# Altium schematic symbol library WE-TVSP.SchLib: 358 symbols (part 7 of 7)
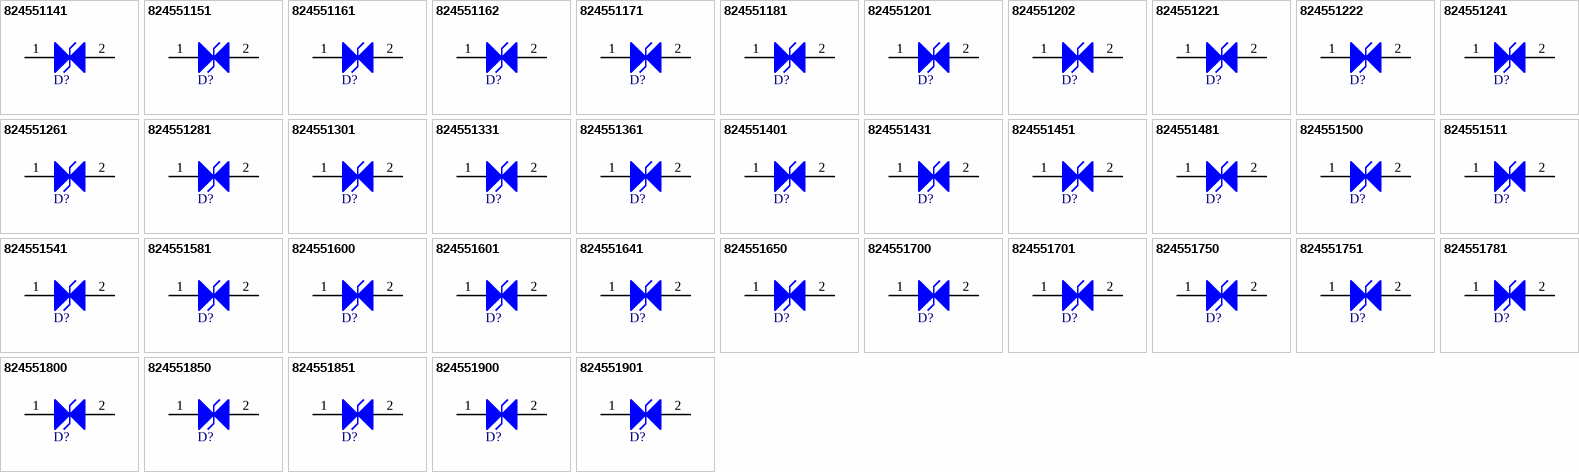
[diagram p14: symbols 824551141 to 824551901]

## 824551202
designator D?, comment 3000W, 200VDC  (value not drawn)
WE-TVSP SMT Power TVS Diode, DO-214AB, Bidirectional, 3000W, 200VDC; Manufacturer Part Number: 824551202; Manufacturer: Wurth Elektronik; Clamping Voltage: 324V; Operating Voltage (DC): 200V; (Reverse) Breakdown Voltage: 235.5V; (Reverse) Peak Pulse Current: 9.3A; ComponentLink1Description: Website Link; ComponentLink1URL: https://www.we-online.com/redexpert/article/824551202?ad; ComponentLink2Description: Datasheet Link; ComponentLink2URL: https://www.we-online.com/redexpert/spec/824551202?ad; Category: Surge Protection; Match Code: WE-TVSP; Mount: Surface Mount; Operating Temperature Max: 150°C; Operating Temperature Min: -65°C; Packaging: Tape and Reel; Case/Size Code: DO-214AB; Length: 6.86mm; Width: 5.9mm; Height: 2.5mm; Polarity: Bidirectional; Power Dissipation: 3000W
footprint WE-TVSP_DO-214AB_Bidirectional
pins: 1, 2

## 824551221
designator D?, comment 3000W, 22VDC  (value not drawn)
WE-TVSP SMT Power TVS Diode, DO-214AB, Bidirectional, 3000W, 22VDC; Manufacturer Part Number: 824551221; Manufacturer: Wurth Elektronik; Clamping Voltage: 35.5V; Operating Voltage (DC): 22V; (Reverse) Breakdown Voltage: 25.65V; (Reverse) Peak Pulse Current: 84.5A; ComponentLink1Description: Website Link; ComponentLink1URL: https://www.we-online.com/redexpert/article/824551221?ad; ComponentLink2Description: Datasheet Link; ComponentLink2URL: https://www.we-online.com/redexpert/spec/824551221?ad; Category: Surge Protection; Match Code: WE-TVSP; Mount: Surface Mount; Operating Temperature Max: 150°C; Operating Temperature Min: -65°C; Packaging: Tape and Reel; Case/Size Code: DO-214AB; Length: 6.86mm; Width: 5.9mm; Height: 2.5mm; Polarity: Bidirectional; Power Dissipation: 3000W
footprint WE-TVSP_DO-214AB_Bidirectional
pins: 1, 2

## 824551222
designator D?, comment 3000W, 220VDC  (value not drawn)
WE-TVSP SMT Power TVS Diode, DO-214AB, Bidirectional, 3000W, 220VDC; Manufacturer Part Number: 824551222; Manufacturer: Wurth Elektronik; Clamping Voltage: 356V; Operating Voltage (DC): 220V; (Reverse) Breakdown Voltage: 259V; (Reverse) Peak Pulse Current: 8.4A; ComponentLink1Description: Website Link; ComponentLink1URL: https://www.we-online.com/redexpert/article/824551222?ad; ComponentLink2Description: Datasheet Link; ComponentLink2URL: https://www.we-online.com/redexpert/spec/824551222?ad; Category: Surge Protection; Match Code: WE-TVSP; Mount: Surface Mount; Operating Temperature Max: 150°C; Operating Temperature Min: -65°C; Packaging: Tape and Reel; Case/Size Code: DO-214AB; Length: 6.86mm; Width: 5.9mm; Height: 2.5mm; Polarity: Bidirectional; Power Dissipation: 3000W
footprint WE-TVSP_DO-214AB_Bidirectional
pins: 1, 2

## 824551241
designator D?, comment 3000W, 24VDC  (value not drawn)
WE-TVSP SMT Power TVS Diode, DO-214AB, Bidirectional, 3000W, 24VDC; Manufacturer Part Number: 824551241; Manufacturer: Wurth Elektronik; Clamping Voltage: 38.9V; Operating Voltage (DC): 24V; (Reverse) Breakdown Voltage: 28.1V; (Reverse) Peak Pulse Current: 77.1A; ComponentLink1Description: Website Link; ComponentLink1URL: https://www.we-online.com/redexpert/article/824551241?ad; ComponentLink2Description: Datasheet Link; ComponentLink2URL: https://www.we-online.com/redexpert/spec/824551241?ad; Category: Surge Protection; Match Code: WE-TVSP; Mount: Surface Mount; Operating Temperature Max: 150°C; Operating Temperature Min: -65°C; Packaging: Tape and Reel; Case/Size Code: DO-214AB; Length: 6.86mm; Width: 5.9mm; Height: 2.5mm; Polarity: Bidirectional; Power Dissipation: 3000W
footprint WE-TVSP_DO-214AB_Bidirectional
pins: 1, 2

## 824551261
designator D?, comment 3000W, 26VDC  (value not drawn)
WE-TVSP SMT Power TVS Diode, DO-214AB, Bidirectional, 3000W, 26VDC; Manufacturer Part Number: 824551261; Manufacturer: Wurth Elektronik; Clamping Voltage: 42.1V; Operating Voltage (DC): 26V; (Reverse) Breakdown Voltage: 30.4V; (Reverse) Peak Pulse Current: 71.3A; ComponentLink1Description: Website Link; ComponentLink1URL: https://www.we-online.com/redexpert/article/824551261?ad; ComponentLink2Description: Datasheet Link; ComponentLink2URL: https://www.we-online.com/redexpert/spec/824551261?ad; Category: Surge Protection; Match Code: WE-TVSP; Mount: Surface Mount; Operating Temperature Max: 150°C; Operating Temperature Min: -65°C; Packaging: Tape and Reel; Case/Size Code: DO-214AB; Length: 6.86mm; Width: 5.9mm; Height: 2.5mm; Polarity: Bidirectional; Power Dissipation: 3000W
footprint WE-TVSP_DO-214AB_Bidirectional
pins: 1, 2

## 824551281
designator D?, comment 3000W, 28VDC  (value not drawn)
WE-TVSP SMT Power TVS Diode, DO-214AB, Bidirectional, 3000W, 28VDC; Manufacturer Part Number: 824551281; Manufacturer: Wurth Elektronik; Clamping Voltage: 45.4V; Operating Voltage (DC): 28V; (Reverse) Breakdown Voltage: 32.75V; (Reverse) Peak Pulse Current: 66.1A; ComponentLink1Description: Website Link; ComponentLink1URL: https://www.we-online.com/redexpert/article/824551281?ad; ComponentLink2Description: Datasheet Link; ComponentLink2URL: https://www.we-online.com/redexpert/spec/824551281?ad; Category: Surge Protection; Match Code: WE-TVSP; Mount: Surface Mount; Operating Temperature Max: 150°C; Operating Temperature Min: -65°C; Packaging: Tape and Reel; Case/Size Code: DO-214AB; Length: 6.86mm; Width: 5.9mm; Height: 2.5mm; Polarity: Bidirectional; Power Dissipation: 3000W
footprint WE-TVSP_DO-214AB_Bidirectional
pins: 1, 2

## 824551301
designator D?, comment 3000W, 30VDC  (value not drawn)
WE-TVSP SMT Power TVS Diode, DO-214AB, Bidirectional, 3000W, 30VDC; Manufacturer Part Number: 824551301; Manufacturer: Wurth Elektronik; Clamping Voltage: 48.4V; Operating Voltage (DC): 30V; (Reverse) Breakdown Voltage: 35.05V; (Reverse) Peak Pulse Current: 62A; ComponentLink1Description: Website Link; ComponentLink1URL: https://www.we-online.com/redexpert/article/824551301?ad; ComponentLink2Description: Datasheet Link; ComponentLink2URL: https://www.we-online.com/redexpert/spec/824551301?ad; Category: Surge Protection; Match Code: WE-TVSP; Mount: Surface Mount; Operating Temperature Max: 150°C; Operating Temperature Min: -65°C; Packaging: Tape and Reel; Case/Size Code: DO-214AB; Length: 6.86mm; Width: 5.9mm; Height: 2.5mm; Polarity: Bidirectional; Power Dissipation: 3000W
footprint WE-TVSP_DO-214AB_Bidirectional
pins: 1, 2

## 824551331
designator D?, comment 3000W, 33VDC  (value not drawn)
WE-TVSP SMT Power TVS Diode, DO-214AB, Bidirectional, 3000W, 33VDC; Manufacturer Part Number: 824551331; Manufacturer: Wurth Elektronik; Clamping Voltage: 53.3V; Operating Voltage (DC): 33V; (Reverse) Breakdown Voltage: 38.65V; (Reverse) Peak Pulse Current: 56.3A; ComponentLink1Description: Website Link; ComponentLink1URL: https://www.we-online.com/redexpert/article/824551331?ad; ComponentLink2Description: Datasheet Link; ComponentLink2URL: https://www.we-online.com/redexpert/spec/824551331?ad; Category: Surge Protection; Match Code: WE-TVSP; Mount: Surface Mount; Operating Temperature Max: 150°C; Operating Temperature Min: -65°C; Packaging: Tape and Reel; Case/Size Code: DO-214AB; Length: 6.86mm; Width: 5.9mm; Height: 2.5mm; Polarity: Bidirectional; Power Dissipation: 3000W
footprint WE-TVSP_DO-214AB_Bidirectional
pins: 1, 2

## 824551361
designator D?, comment 3000W, 36VDC  (value not drawn)
WE-TVSP SMT Power TVS Diode, DO-214AB, Bidirectional, 3000W, 36VDC; Manufacturer Part Number: 824551361; Manufacturer: Wurth Elektronik; Clamping Voltage: 58.1V; Operating Voltage (DC): 36V; (Reverse) Breakdown Voltage: 42.1V; (Reverse) Peak Pulse Current: 51.6A; ComponentLink1Description: Website Link; ComponentLink1URL: https://www.we-online.com/redexpert/article/824551361?ad; ComponentLink2Description: Datasheet Link; ComponentLink2URL: https://www.we-online.com/redexpert/spec/824551361?ad; Category: Surge Protection; Match Code: WE-TVSP; Mount: Surface Mount; Operating Temperature Max: 150°C; Operating Temperature Min: -65°C; Packaging: Tape and Reel; Case/Size Code: DO-214AB; Length: 6.86mm; Width: 5.9mm; Height: 2.5mm; Polarity: Bidirectional; Power Dissipation: 3000W
footprint WE-TVSP_DO-214AB_Bidirectional
pins: 1, 2

## 824551401
designator D?, comment 3000W, 40VDC  (value not drawn)
WE-TVSP SMT Power TVS Diode, DO-214AB, Bidirectional, 3000W, 40VDC; Manufacturer Part Number: 824551401; Manufacturer: Wurth Elektronik; Clamping Voltage: 64.5V; Operating Voltage (DC): 40V; (Reverse) Breakdown Voltage: 46.75V; (Reverse) Peak Pulse Current: 46.5A; ComponentLink1Description: Website Link; ComponentLink1URL: https://www.we-online.com/redexpert/article/824551401?ad; ComponentLink2Description: Datasheet Link; ComponentLink2URL: https://www.we-online.com/redexpert/spec/824551401?ad; Category: Surge Protection; Match Code: WE-TVSP; Mount: Surface Mount; Operating Temperature Max: 150°C; Operating Temperature Min: -65°C; Packaging: Tape and Reel; Case/Size Code: DO-214AB; Length: 6.86mm; Width: 5.9mm; Height: 2.5mm; Polarity: Bidirectional; Power Dissipation: 3000W
footprint WE-TVSP_DO-214AB_Bidirectional
pins: 1, 2

## 824551431
designator D?, comment 3000W, 43VDC  (value not drawn)
WE-TVSP SMT Power TVS Diode, DO-214AB, Bidirectional, 3000W, 43VDC; Manufacturer Part Number: 824551431; Manufacturer: Wurth Elektronik; Clamping Voltage: 69.4V; Operating Voltage (DC): 43V; (Reverse) Breakdown Voltage: 50.3V; (Reverse) Peak Pulse Current: 43.2A; ComponentLink1Description: Website Link; ComponentLink1URL: https://www.we-online.com/redexpert/article/824551431?ad; ComponentLink2Description: Datasheet Link; ComponentLink2URL: https://www.we-online.com/redexpert/spec/824551431?ad; Category: Surge Protection; Match Code: WE-TVSP; Mount: Surface Mount; Operating Temperature Max: 150°C; Operating Temperature Min: -65°C; Packaging: Tape and Reel; Case/Size Code: DO-214AB; Length: 6.86mm; Width: 5.9mm; Height: 2.5mm; Polarity: Bidirectional; Power Dissipation: 3000W
footprint WE-TVSP_DO-214AB_Bidirectional
pins: 1, 2

## 824551451
designator D?, comment 3000W, 45VDC  (value not drawn)
WE-TVSP SMT Power TVS Diode, DO-214AB, Bidirectional, 3000W, 45VDC; Manufacturer Part Number: 824551451; Manufacturer: Wurth Elektronik; Clamping Voltage: 72.7V; Operating Voltage (DC): 45V; (Reverse) Breakdown Voltage: 52.65V; (Reverse) Peak Pulse Current: 41.3A; ComponentLink1Description: Website Link; ComponentLink1URL: https://www.we-online.com/redexpert/article/824551451?ad; ComponentLink2Description: Datasheet Link; ComponentLink2URL: https://www.we-online.com/redexpert/spec/824551451?ad; Category: Surge Protection; Match Code: WE-TVSP; Mount: Surface Mount; Operating Temperature Max: 150°C; Operating Temperature Min: -65°C; Packaging: Tape and Reel; Case/Size Code: DO-214AB; Length: 6.86mm; Width: 5.9mm; Height: 2.5mm; Polarity: Bidirectional; Power Dissipation: 3000W
footprint WE-TVSP_DO-214AB_Bidirectional
pins: 1, 2

## 824551481
designator D?, comment 3000W, 48VDC  (value not drawn)
WE-TVSP SMT Power TVS Diode, DO-214AB, Bidirectional, 3000W, 48VDC; Manufacturer Part Number: 824551481; Manufacturer: Wurth Elektronik; Clamping Voltage: 77.4V; Operating Voltage (DC): 48V; (Reverse) Breakdown Voltage: 56.1V; (Reverse) Peak Pulse Current: 38.8A; ComponentLink1Description: Website Link; ComponentLink1URL: https://www.we-online.com/redexpert/article/824551481?ad; ComponentLink2Description: Datasheet Link; ComponentLink2URL: https://www.we-online.com/redexpert/spec/824551481?ad; Category: Surge Protection; Match Code: WE-TVSP; Mount: Surface Mount; Operating Temperature Max: 150°C; Operating Temperature Min: -65°C; Packaging: Tape and Reel; Case/Size Code: DO-214AB; Length: 6.86mm; Width: 5.9mm; Height: 2.5mm; Polarity: Bidirectional; Power Dissipation: 3000W
footprint WE-TVSP_DO-214AB_Bidirectional
pins: 1, 2

## 824551500
designator D?, comment 3000W, 5VDC  (value not drawn)
WE-TVSP SMT Power TVS Diode, DO-214AB, Bidirectional, 3000W, 5VDC; Manufacturer Part Number: 824551500; Manufacturer: Wurth Elektronik; Clamping Voltage: 9.2V; Operating Voltage (DC): 5V; (Reverse) Breakdown Voltage: 6.7V; (Reverse) Peak Pulse Current: 326.1A; ComponentLink1Description: Website Link; ComponentLink1URL: https://www.we-online.com/redexpert/article/824551500?ad; ComponentLink2Description: Datasheet Link; ComponentLink2URL: https://www.we-online.com/redexpert/spec/824551500?ad; Category: Surge Protection; Match Code: WE-TVSP; Mount: Surface Mount; Operating Temperature Max: 150°C; Operating Temperature Min: -65°C; Packaging: Tape and Reel; Case/Size Code: DO-214AB; Length: 6.86mm; Width: 5.9mm; Height: 2.5mm; Polarity: Bidirectional; Power Dissipation: 3000W
footprint WE-TVSP_DO-214AB_Bidirectional
pins: 1, 2

## 824551511
designator D?, comment 3000W, 51VDC  (value not drawn)
WE-TVSP SMT Power TVS Diode, DO-214AB, Bidirectional, 3000W, 51VDC; Manufacturer Part Number: 824551511; Manufacturer: Wurth Elektronik; Clamping Voltage: 82.4V; Operating Voltage (DC): 51V; (Reverse) Breakdown Voltage: 59.7V; (Reverse) Peak Pulse Current: 36.4A; ComponentLink1Description: Website Link; ComponentLink1URL: https://www.we-online.com/redexpert/article/824551511?ad; ComponentLink2Description: Datasheet Link; ComponentLink2URL: https://www.we-online.com/redexpert/spec/824551511?ad; Category: Surge Protection; Match Code: WE-TVSP; Mount: Surface Mount; Operating Temperature Max: 150°C; Operating Temperature Min: -65°C; Packaging: Tape and Reel; Case/Size Code: DO-214AB; Length: 6.86mm; Width: 5.9mm; Height: 2.5mm; Polarity: Bidirectional; Power Dissipation: 3000W
footprint WE-TVSP_DO-214AB_Bidirectional
pins: 1, 2

## 824551541
designator D?, comment 3000W, 54VDC  (value not drawn)
WE-TVSP SMT Power TVS Diode, DO-214AB, Bidirectional, 3000W, 54VDC; Manufacturer Part Number: 824551541; Manufacturer: Wurth Elektronik; Clamping Voltage: 87.1V; Operating Voltage (DC): 54V; (Reverse) Breakdown Voltage: 63.15V; (Reverse) Peak Pulse Current: 34.4A; ComponentLink1Description: Website Link; ComponentLink1URL: https://www.we-online.com/redexpert/article/824551541?ad; ComponentLink2Description: Datasheet Link; ComponentLink2URL: https://www.we-online.com/redexpert/spec/824551541?ad; Category: Surge Protection; Match Code: WE-TVSP; Mount: Surface Mount; Operating Temperature Max: 150°C; Operating Temperature Min: -65°C; Packaging: Tape and Reel; Case/Size Code: DO-214AB; Length: 6.86mm; Width: 5.9mm; Height: 2.5mm; Polarity: Bidirectional; Power Dissipation: 3000W
footprint WE-TVSP_DO-214AB_Bidirectional
pins: 1, 2

## 824551581
designator D?, comment 3000W, 58VDC  (value not drawn)
WE-TVSP SMT Power TVS Diode, DO-214AB, Bidirectional, 3000W, 58VDC; Manufacturer Part Number: 824551581; Manufacturer: Wurth Elektronik; Clamping Voltage: 93.6V; Operating Voltage (DC): 58V; (Reverse) Breakdown Voltage: 67.8V; (Reverse) Peak Pulse Current: 32.1A; ComponentLink1Description: Website Link; ComponentLink1URL: https://www.we-online.com/redexpert/article/824551581?ad; ComponentLink2Description: Datasheet Link; ComponentLink2URL: https://www.we-online.com/redexpert/spec/824551581?ad; Category: Surge Protection; Match Code: WE-TVSP; Mount: Surface Mount; Operating Temperature Max: 150°C; Operating Temperature Min: -65°C; Packaging: Tape and Reel; Case/Size Code: DO-214AB; Length: 6.86mm; Width: 5.9mm; Height: 2.5mm; Polarity: Bidirectional; Power Dissipation: 3000W
footprint WE-TVSP_DO-214AB_Bidirectional
pins: 1, 2

## 824551600
designator D?, comment 3000W, 6VDC  (value not drawn)
WE-TVSP SMT Power TVS Diode, DO-214AB, Bidirectional, 3000W, 6VDC; Manufacturer Part Number: 824551600; Manufacturer: Wurth Elektronik; Clamping Voltage: 10.3V; Operating Voltage (DC): 6V; (Reverse) Breakdown Voltage: 7.02V; (Reverse) Peak Pulse Current: 291.3A; ComponentLink1Description: Website Link; ComponentLink1URL: https://www.we-online.com/redexpert/article/824551600?ad; ComponentLink2Description: Datasheet Link; ComponentLink2URL: https://www.we-online.com/redexpert/spec/824551600?ad; Category: Surge Protection; Match Code: WE-TVSP; Mount: Surface Mount; Operating Temperature Max: 150°C; Operating Temperature Min: -65°C; Packaging: Tape and Reel; Case/Size Code: DO-214AB; Length: 6.86mm; Width: 5.9mm; Height: 2.5mm; Polarity: Bidirectional; Power Dissipation: 3000W
footprint WE-TVSP_DO-214AB_Bidirectional
pins: 1, 2

## 824551601
designator D?, comment 3000W, 60VDC  (value not drawn)
WE-TVSP SMT Power TVS Diode, DO-214AB, Bidirectional, 3000W, 60VDC; Manufacturer Part Number: 824551601; Manufacturer: Wurth Elektronik; Clamping Voltage: 96.8V; Operating Voltage (DC): 60V; (Reverse) Breakdown Voltage: 70.2V; (Reverse) Peak Pulse Current: 31A; ComponentLink1Description: Website Link; ComponentLink1URL: https://www.we-online.com/redexpert/article/824551601?ad; ComponentLink2Description: Datasheet Link; ComponentLink2URL: https://www.we-online.com/redexpert/spec/824551601?ad; Category: Surge Protection; Match Code: WE-TVSP; Mount: Surface Mount; Operating Temperature Max: 150°C; Operating Temperature Min: -65°C; Packaging: Tape and Reel; Case/Size Code: DO-214AB; Length: 6.86mm; Width: 5.9mm; Height: 2.5mm; Polarity: Bidirectional; Power Dissipation: 3000W
footprint WE-TVSP_DO-214AB_Bidirectional
pins: 1, 2

## 824551641
designator D?, comment 3000W, 64VDC  (value not drawn)
WE-TVSP SMT Power TVS Diode, DO-214AB, Bidirectional, 3000W, 64VDC; Manufacturer Part Number: 824551641; Manufacturer: Wurth Elektronik; Clamping Voltage: 103V; Operating Voltage (DC): 64V; (Reverse) Breakdown Voltage: 74.85V; (Reverse) Peak Pulse Current: 29.1A; ComponentLink1Description: Website Link; ComponentLink1URL: https://www.we-online.com/redexpert/article/824551641?ad; ComponentLink2Description: Datasheet Link; ComponentLink2URL: https://www.we-online.com/redexpert/spec/824551641?ad; Category: Surge Protection; Match Code: WE-TVSP; Mount: Surface Mount; Operating Temperature Max: 150°C; Operating Temperature Min: -65°C; Packaging: Tape and Reel; Case/Size Code: DO-214AB; Length: 6.86mm; Width: 5.9mm; Height: 2.5mm; Polarity: Bidirectional; Power Dissipation: 3000W
footprint WE-TVSP_DO-214AB_Bidirectional
pins: 1, 2

## 824551650
designator D?, comment 3000W, 6.5VDC  (value not drawn)
WE-TVSP SMT Power TVS Diode, DO-214AB, Bidirectional, 3000W, 6.5VDC; Manufacturer Part Number: 824551650; Manufacturer: Wurth Elektronik; Clamping Voltage: 11.2V; Operating Voltage (DC): 6.5V; (Reverse) Breakdown Voltage: 7.6V; (Reverse) Peak Pulse Current: 267.9A; ComponentLink1Description: Website Link; ComponentLink1URL: https://www.we-online.com/redexpert/article/824551650?ad; ComponentLink2Description: Datasheet Link; ComponentLink2URL: https://www.we-online.com/redexpert/spec/824551650?ad; Category: Surge Protection; Match Code: WE-TVSP; Mount: Surface Mount; Operating Temperature Max: 150°C; Operating Temperature Min: -65°C; Packaging: Tape and Reel; Case/Size Code: DO-214AB; Length: 6.86mm; Width: 5.9mm; Height: 2.5mm; Polarity: Bidirectional; Power Dissipation: 3000W
footprint WE-TVSP_DO-214AB_Bidirectional
pins: 1, 2

## 824551700
designator D?, comment 3000W, 7VDC  (value not drawn)
WE-TVSP SMT Power TVS Diode, DO-214AB, Bidirectional, 3000W, 7VDC; Manufacturer Part Number: 824551700; Manufacturer: Wurth Elektronik; Clamping Voltage: 12V; Operating Voltage (DC): 7V; (Reverse) Breakdown Voltage: 8.19V; (Reverse) Peak Pulse Current: 250A; ComponentLink1Description: Website Link; ComponentLink1URL: https://www.we-online.com/redexpert/article/824551700?ad; ComponentLink2Description: Datasheet Link; ComponentLink2URL: https://www.we-online.com/redexpert/spec/824551700?ad; Category: Surge Protection; Match Code: WE-TVSP; Mount: Surface Mount; Operating Temperature Max: 150°C; Operating Temperature Min: -65°C; Packaging: Tape and Reel; Case/Size Code: DO-214AB; Length: 6.86mm; Width: 5.9mm; Height: 2.5mm; Polarity: Bidirectional; Power Dissipation: 3000W
footprint WE-TVSP_DO-214AB_Bidirectional
pins: 1, 2

## 824551701
designator D?, comment 3000W, 70VDC  (value not drawn)
WE-TVSP SMT Power TVS Diode, DO-214AB, Bidirectional, 3000W, 70VDC; Manufacturer Part Number: 824551701; Manufacturer: Wurth Elektronik; Clamping Voltage: 113V; Operating Voltage (DC): 70V; (Reverse) Breakdown Voltage: 81.9V; (Reverse) Peak Pulse Current: 26.5A; ComponentLink1Description: Website Link; ComponentLink1URL: https://www.we-online.com/redexpert/article/824551701?ad; ComponentLink2Description: Datasheet Link; ComponentLink2URL: https://www.we-online.com/redexpert/spec/824551701?ad; Category: Surge Protection; Match Code: WE-TVSP; Mount: Surface Mount; Operating Temperature Max: 150°C; Operating Temperature Min: -65°C; Packaging: Tape and Reel; Case/Size Code: DO-214AB; Length: 6.86mm; Width: 5.9mm; Height: 2.5mm; Polarity: Bidirectional; Power Dissipation: 3000W
footprint WE-TVSP_DO-214AB_Bidirectional
pins: 1, 2

## 824551750
designator D?, comment 3000W, 7.5VDC  (value not drawn)
WE-TVSP SMT Power TVS Diode, DO-214AB, Bidirectional, 3000W, 7.5VDC; Manufacturer Part Number: 824551750; Manufacturer: Wurth Elektronik; Clamping Voltage: 12.9V; Operating Voltage (DC): 7.5V; (Reverse) Breakdown Voltage: 8.77V; (Reverse) Peak Pulse Current: 232.6A; ComponentLink1Description: Website Link; ComponentLink1URL: https://www.we-online.com/redexpert/article/824551750?ad; ComponentLink2Description: Datasheet Link; ComponentLink2URL: https://www.we-online.com/redexpert/spec/824551750?ad; Category: Surge Protection; Match Code: WE-TVSP; Mount: Surface Mount; Operating Temperature Max: 150°C; Operating Temperature Min: -65°C; Packaging: Tape and Reel; Case/Size Code: DO-214AB; Length: 6.86mm; Width: 5.9mm; Height: 2.5mm; Polarity: Bidirectional; Power Dissipation: 3000W
footprint WE-TVSP_DO-214AB_Bidirectional
pins: 1, 2

## 824551751
designator D?, comment 3000W, 75VDC  (value not drawn)
WE-TVSP SMT Power TVS Diode, DO-214AB, Bidirectional, 3000W, 75VDC; Manufacturer Part Number: 824551751; Manufacturer: Wurth Elektronik; Clamping Voltage: 121V; Operating Voltage (DC): 75V; (Reverse) Breakdown Voltage: 87.7V; (Reverse) Peak Pulse Current: 24.8A; ComponentLink1Description: Website Link; ComponentLink1URL: https://www.we-online.com/redexpert/article/824551751?ad; ComponentLink2Description: Datasheet Link; ComponentLink2URL: https://www.we-online.com/redexpert/spec/824551751?ad; Category: Surge Protection; Match Code: WE-TVSP; Mount: Surface Mount; Operating Temperature Max: 150°C; Operating Temperature Min: -65°C; Packaging: Tape and Reel; Case/Size Code: DO-214AB; Length: 6.86mm; Width: 5.9mm; Height: 2.5mm; Polarity: Bidirectional; Power Dissipation: 3000W
footprint WE-TVSP_DO-214AB_Bidirectional
pins: 1, 2

## 824551781
designator D?, comment 3000W, 78VDC  (value not drawn)
WE-TVSP SMT Power TVS Diode, DO-214AB, Bidirectional, 3000W, 78VDC; Manufacturer Part Number: 824551781; Manufacturer: Wurth Elektronik; Clamping Voltage: 126V; Operating Voltage (DC): 78V; (Reverse) Breakdown Voltage: 91.25V; (Reverse) Peak Pulse Current: 23.8A; ComponentLink1Description: Website Link; ComponentLink1URL: https://www.we-online.com/redexpert/article/824551781?ad; ComponentLink2Description: Datasheet Link; ComponentLink2URL: https://www.we-online.com/redexpert/spec/824551781?ad; Category: Surge Protection; Match Code: WE-TVSP; Mount: Surface Mount; Operating Temperature Max: 150°C; Operating Temperature Min: -65°C; Packaging: Tape and Reel; Case/Size Code: DO-214AB; Length: 6.86mm; Width: 5.9mm; Height: 2.5mm; Polarity: Bidirectional; Power Dissipation: 3000W
footprint WE-TVSP_DO-214AB_Bidirectional
pins: 1, 2

## 824551800
designator D?, comment 3000W, 8VDC  (value not drawn)
WE-TVSP SMT Power TVS Diode, DO-214AB, Bidirectional, 3000W, 8VDC; Manufacturer Part Number: 824551800; Manufacturer: Wurth Elektronik; Clamping Voltage: 13.6V; Operating Voltage (DC): 8V; (Reverse) Breakdown Voltage: 9.36V; (Reverse) Peak Pulse Current: 220.6A; ComponentLink1Description: Website Link; ComponentLink1URL: https://www.we-online.com/redexpert/article/824551800?ad; ComponentLink2Description: Datasheet Link; ComponentLink2URL: https://www.we-online.com/redexpert/spec/824551800?ad; Category: Surge Protection; Match Code: WE-TVSP; Mount: Surface Mount; Operating Temperature Max: 150°C; Operating Temperature Min: -65°C; Packaging: Tape and Reel; Case/Size Code: DO-214AB; Length: 6.86mm; Width: 5.9mm; Height: 2.5mm; Polarity: Bidirectional; Power Dissipation: 3000W
footprint WE-TVSP_DO-214AB_Bidirectional
pins: 1, 2

## 824551850
designator D?, comment 3000W, 8.5VDC  (value not drawn)
WE-TVSP SMT Power TVS Diode, DO-214AB, Bidirectional, 3000W, 8.5VDC; Manufacturer Part Number: 824551850; Manufacturer: Wurth Elektronik; Clamping Voltage: 14.4V; Operating Voltage (DC): 8.5V; (Reverse) Breakdown Voltage: 9.92V; (Reverse) Peak Pulse Current: 208.3A; ComponentLink1Description: Website Link; ComponentLink1URL: https://www.we-online.com/redexpert/article/824551850?ad; ComponentLink2Description: Datasheet Link; ComponentLink2URL: https://www.we-online.com/redexpert/spec/824551850?ad; Category: Surge Protection; Match Code: WE-TVSP; Mount: Surface Mount; Operating Temperature Max: 150°C; Operating Temperature Min: -65°C; Packaging: Tape and Reel; Case/Size Code: DO-214AB; Length: 6.86mm; Width: 5.9mm; Height: 2.5mm; Polarity: Bidirectional; Power Dissipation: 3000W
footprint WE-TVSP_DO-214AB_Bidirectional
pins: 1, 2

## 824551851
designator D?, comment 3000W, 85VDC  (value not drawn)
WE-TVSP SMT Power TVS Diode, DO-214AB, Bidirectional, 3000W, 85VDC; Manufacturer Part Number: 824551851; Manufacturer: Wurth Elektronik; Clamping Voltage: 137V; Operating Voltage (DC): 85V; (Reverse) Breakdown Voltage: 99.2V; (Reverse) Peak Pulse Current: 21.9A; ComponentLink1Description: Website Link; ComponentLink1URL: https://www.we-online.com/redexpert/article/824551851?ad; ComponentLink2Description: Datasheet Link; ComponentLink2URL: https://www.we-online.com/redexpert/spec/824551851?ad; Category: Surge Protection; Match Code: WE-TVSP; Mount: Surface Mount; Operating Temperature Max: 150°C; Operating Temperature Min: -65°C; Packaging: Tape and Reel; Case/Size Code: DO-214AB; Length: 6.86mm; Width: 5.9mm; Height: 2.5mm; Polarity: Bidirectional; Power Dissipation: 3000W
footprint WE-TVSP_DO-214AB_Bidirectional
pins: 1, 2

## 824551900
designator D?, comment 3000W, 9VDC  (value not drawn)
WE-TVSP SMT Power TVS Diode, DO-214AB, Bidirectional, 3000W, 9VDC; Manufacturer Part Number: 824551900; Manufacturer: Wurth Elektronik; Clamping Voltage: 15.4V; Operating Voltage (DC): 9V; (Reverse) Breakdown Voltage: 10.55V; (Reverse) Peak Pulse Current: 194.8A; ComponentLink1Description: Website Link; ComponentLink1URL: https://www.we-online.com/redexpert/article/824551900?ad; ComponentLink2Description: Datasheet Link; ComponentLink2URL: https://www.we-online.com/redexpert/spec/824551900?ad; Category: Surge Protection; Match Code: WE-TVSP; Mount: Surface Mount; Operating Temperature Max: 150°C; Operating Temperature Min: -65°C; Packaging: Tape and Reel; Case/Size Code: DO-214AB; Length: 6.86mm; Width: 5.9mm; Height: 2.5mm; Polarity: Bidirectional; Power Dissipation: 3000W
footprint WE-TVSP_DO-214AB_Bidirectional
pins: 1, 2

## 824551901
designator D?, comment 3000W, 90VDC  (value not drawn)
WE-TVSP SMT Power TVS Diode, DO-214AB, Bidirectional, 3000W, 90VDC; Manufacturer Part Number: 824551901; Manufacturer: Wurth Elektronik; Clamping Voltage: 146V; Operating Voltage (DC): 90V; (Reverse) Breakdown Voltage: 105.5V; (Reverse) Peak Pulse Current: 20.5A; ComponentLink1Description: Website Link; ComponentLink1URL: https://www.we-online.com/redexpert/article/824551901?ad; ComponentLink2Description: Datasheet Link; ComponentLink2URL: https://www.we-online.com/redexpert/spec/824551901?ad; Category: Surge Protection; Match Code: WE-TVSP; Mount: Surface Mount; Operating Temperature Max: 150°C; Operating Temperature Min: -65°C; Packaging: Tape and Reel; Case/Size Code: DO-214AB; Length: 6.86mm; Width: 5.9mm; Height: 2.5mm; Polarity: Bidirectional; Power Dissipation: 3000W
footprint WE-TVSP_DO-214AB_Bidirectional
pins: 1, 2